# Altium footprint library WRA_S-1WR2.PcbLib: 1 footprints
Each footprint in its own frame and in the unit in brackets; x right, y up, seen from the top. Pads: shape width x height; smd on the part's side, far side on the other; paste and mask are expansions set on the pad; w line width, h text height; cw(c..) or ccw(c..) is an arc to the next point about the centre after c.
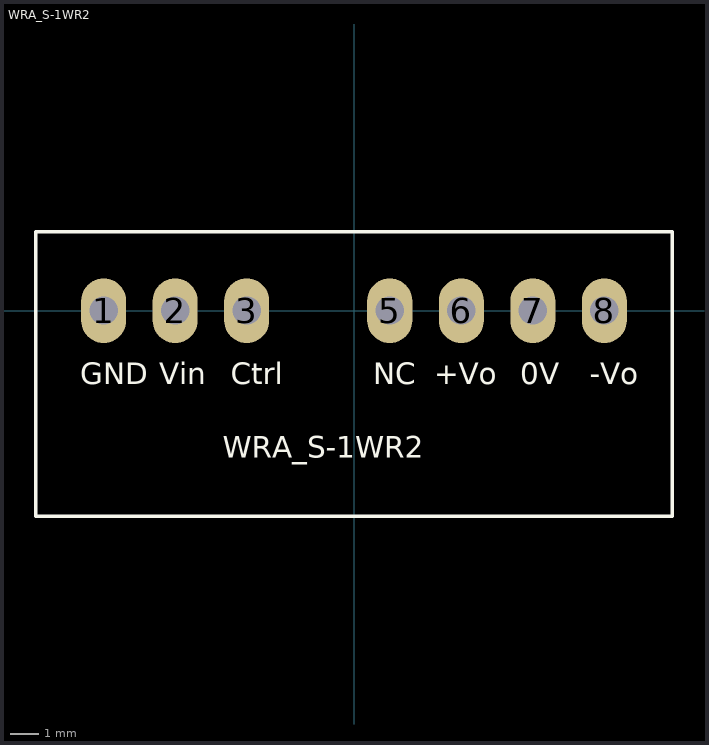
[diagram p0: the footprint, top view; thin cyan lines are the x and y axes]

## WRA_S-1WR2 [mm]
pads (7):
  oval 1.6x2.3 hole 1: 1(-8.89,0) 2(-6.35,0) 3(-3.81,0) 5(1.27,0) 6(3.81,0) 7(6.35,0) 8(8.89,0)
Top Overlay:
  lines w0.127: -11.3,-7.3 -11.3,2.8 11.3,2.8 11.3,-7.3 -11.3,-7.3
  text "+Vo" at 2.848,-2.608 h0.76
  text "-Vo" at 8.377,-2.608 h0.76
  text "0V" at 5.911,-2.608 h0.76
  text "GND" at -9.728,-2.608 h0.76
  text "WRA_S-1WR2" at -4.655,-5.232 h0.76
  text "Vin" at -6.921,-2.608 h0.76
  text "Ctrl" at -4.381,-2.608 h0.76
  text "NC" at 0.686,-2.608 h0.76